# Altium schematic symbol library PIC12(L)F1822.Schlib: 1 symbol
Pins are listed as number, name and electrical type; pins without a type are passive.

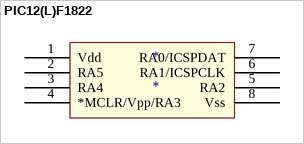
[diagram p0: symbol PIC12(L)F1822]

## PIC12(L)F1822
designator *
pins: 1 Vdd, 2 RA5, 3 RA4, 4 *MCLR/Vpp/RA3, 5 RA2, 6 RA1/ICSPCLK, 7 RA0/ICSPDAT, 8 Vss